# EAGLE library part SY8205 (library alvie)
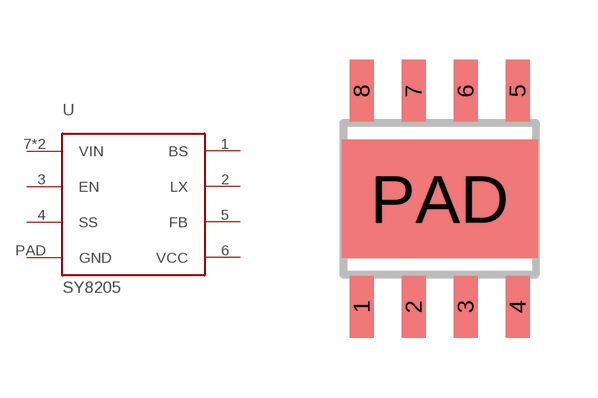
[diagram p60: symbol with the pads of POWERPAD-SOIC8; footprint POWERPAD-SOIC8]

Designator prefix -

## SY8205  [POWERPAD-SOIC8]
1  BS  pas
2  LX  pas
3  EN  in
4  SS  pas
5  FB  pas
6  VCC  pwr
7  VIN  pwr
8  VIN  pwr
PAD  GND  pwr

## Footprint POWERPAD-SOIC8 (pad centres in mm)
smd 0.6 x 1.55: 1 -1.95,-2.7; 2 -0.65,-2.7; 3 0.65,-2.7; 4 1.95,-2.7; 5 1.95,2.7; 6 0.65,2.7; 7 -0.65,2.7; 8 -1.95,2.7
smd 4.9 x 2.95: PAD 0,0